# Altium schematic symbol library 3025.SchLib: 1 symbol
Pins are listed as number, name and electrical type; pins without a type are passive.

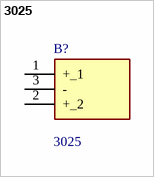
[diagram p0: symbol 3025]

## 3025
designator B?
Coin Cell Battery Holders THM COIN CELL CLIP FOR (2) 2032; Manufacturer_Name: Keystone Electronics; Geometry.Height: 7.75mm; Manufacturer_Part_Number: 3025; Mouser Part Number: 534-3025; Mouser Price/Stock: https://www.mouser.co.uk/ProductDetail/Keystone-Electronics/3025?qs=F3SQOOfR3Vt%252BCgjaGDhpOQ%3D%3D; Arrow Part Number: *; Arrow Price/Stock: *; Datasheet Link: https://www.keyelco.com/product-pdf.cfm?p=740
footprint 3025
pins: 1 +_1, 2 +_2, 3 -